# Altium schematic symbol library Connector Schematic Symbols.SchLib: 10 symbols
Pins are listed as number, name and electrical type; pins without a type are passive.

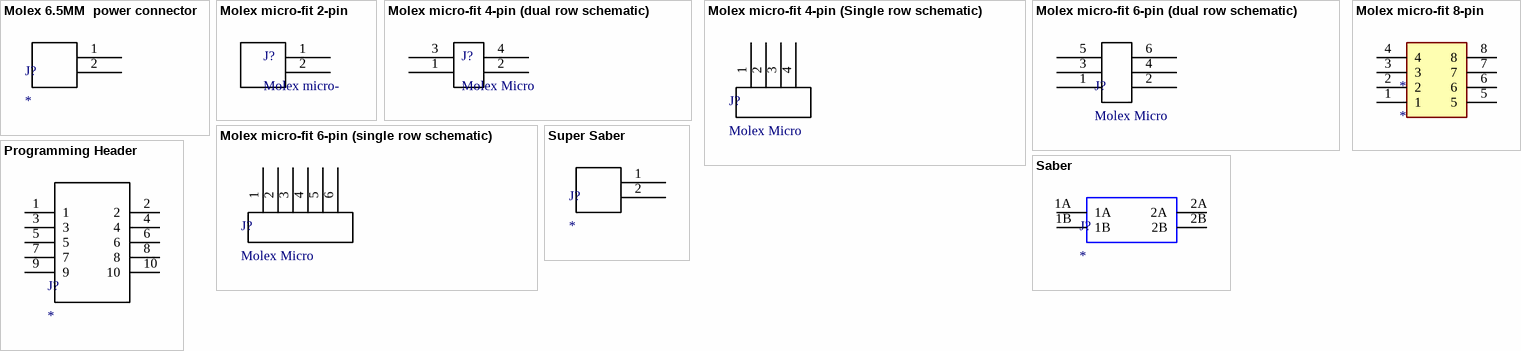
[diagram p0: symbols Molex 6.5MM  power connector to Super Saber]

## Molex 6.5MM  power connector
designator J?
footprint power connector
pins: 1, 2

## Molex micro-fit 2-pin
designator J?, comment Molex micro-
Molex micro-fit 3.0. Molex P/N 0430450227
footprint Microfit 2 pin (Molex Micro fit 3.0)
footprint microfit R/A 2 pin
pins: 1, 2

## Molex micro-fit 4-pin (dual row schematic)
designator J?, comment Molex Micro
Molex micro-fit 3.0, P/N 0430450427
footprint microfit 4 pin (Molex micro-fit 3.0 4 pos)
footprint MICROFIT R/A 4 PIN
pins: 1, 2, 3, 4

## Molex micro-fit 4-pin (Single row schematic)
designator J?, comment Molex Micro
Molex micro-fit 3.0 dual row header. P/N 0430450427
footprint microfit 4 pin (Molex micro-fit 3.0 4 pos)
footprint MICROFIT R/A 4 PIN
pins: 1, 2, 3, 4

## Molex micro-fit 6-pin (dual row schematic)
designator J?, comment Molex Micro
Molex micro-fit 3.0 dual row connector. P/N 0430450627
footprint microfit 6 pin (Molex micro-fit 3.0 6 position)
footprint MICROFIT R/A 6 PIN
pins: 1, 2, 3, 4, 5, 6

## Molex micro-fit 6-pin (single row schematic)
designator J?, comment Molex Micro
Molex micro-fit 3.0 dual row connector. P/N 0430450627
footprint microfit 6 pin (Molex micro-fit 3.0 6 position)
footprint MICROFIT R/A 6 PIN
pins: 1, 2, 3, 4, 5, 6

## Molex micro-fit 8-pin
designator *
footprint MICROFIT 8 PIN
footprint MICROFIT R/A 8 PIN
pins: 1, 2, 3, 4, 5, 6, 7, 8

## Programming Header
designator J?
footprint programming3D
pins: 1, 2, 3, 4, 5, 6, 7, 8, 9, 10

## Saber
designator J?
footprint Sabre
footprint Sabre R/A
pins: 1A, 1B, 2A, 2B

## Super Saber
designator J?
footprint Super Sabre
pins: 1, 2